# EAGLE library part PIC18F2550 (library Components Library)
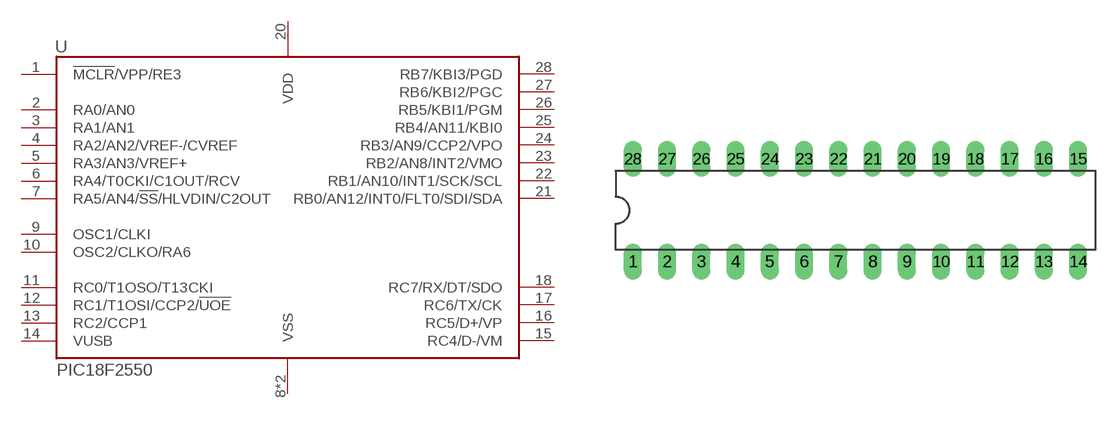
[diagram p11: symbol with the pads of DIL28/3; footprint DIL28/3]

Designator prefix U

## PIC18F2550I/SP  [DIL28/3]
1  !MCLR!/VPP/RE3
2  RA0/AN0
3  RA1/AN1
4  RA2/AN2/VREF-/CVREF
5  RA3/AN3/VREF+
6  RA4/T0CKI/C1OUT/RCV
7  RA5/AN4/!SS!/HLVDIN/C2OUT
8  VSS  pwr
9  OSC1/CLKI
10  OSC2/CLKO/RA6
11  RC0/T1OSO/T13CKI
12  RC1/T1OSI/CCP2/!UOE!
13  RC2/CCP1
14  VUSB
15  RC4/D-/VM
16  RC5/D+/VP
17  RC6/TX/CK
18  RC7/RX/DT/SDO
19  VSS  pwr
20  VDD  pwr
21  RB0/AN12/INT0/FLT0/SDI/SDA
22  RB1/AN10/INT1/SCK/SCL
23  RB2/AN8/INT2/VMO
24  RB3/AN9/CCP2/VPO
25  RB4/AN11/KBI0
26  RB5/KBI1/PGM
27  RB6/KBI2/PGC
28  RB7/KBI3/PGD

## Footprint DIL28/3 (pad centres in mm)
drill 0.813 long: 1 -16.51,-3.81; 2 -13.97,-3.81; 3 -11.43,-3.81; 4 -8.89,-3.81; 5 -6.35,-3.81; 6 -3.81,-3.81; 7 -1.27,-3.81; 8 1.27,-3.81; 9 3.81,-3.81; 10 6.35,-3.81; 11 8.89,-3.81; 12 11.43,-3.81; 13 13.97,-3.81; 14 16.51,-3.81; 15 16.51,3.81; 16 13.97,3.81; 17 11.43,3.81; 18 8.89,3.81; 19 6.35,3.81; 20 3.81,3.81; 21 1.27,3.81; 22 -1.27,3.81; 23 -3.81,3.81; 24 -6.35,3.81; 25 -8.89,3.81; 26 -11.43,3.81; 27 -13.97,3.81; 28 -16.51,3.81